# Altium footprint library 5499922-4.PcbLib: 1 footprints
Each footprint in its own frame and in the unit in brackets; x right, y up, seen from the top. Pads: shape width x height; smd on the part's side, far side on the other; paste and mask are expansions set on the pad; w line width, h text height; cw(c..) or ccw(c..) is an arc to the next point about the centre after c.
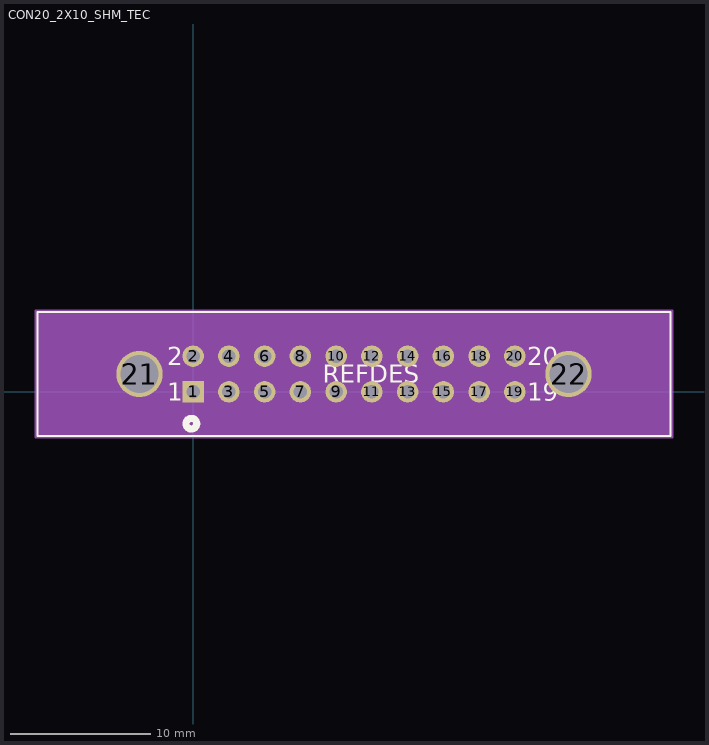
[diagram p0: the footprint, top view; thin cyan lines are the x and y axes]

## CON20_2X10_SHM_TEC [mil]
pads (22):
  rect 60x60 / inner round 60 / far side rect 60x60 hole 38 paste-30 mask-30: 1(0,0)
  round 60 hole 38 paste-30 mask-30: 2(0,100) 3(100,0) 4(100,100) 5(200,0) 6(200,100) 7(300,0) 8(300,100) 9(400,0) 10(400,100) 11(500,0) 12(500,100) 13(600,0) 14(600,100) 15(700,0) 16(700,100) 17(800,0) 18(800,100) 19(900,0) 20(900,100)
  round 130 / inner round 60 / far side round 130 hole 106 paste-65 mask-65: 21(-150,50) 22(1050,50)
Top Overlay:
  circle w20: c-5,-89 r15
  lines w6: -435,-123 -435,223 1335,223 1335,-123 -435,-123
  text "REFDES" at 362.5,25 h50
  text "20" at 935,75 h50
  text "19" at 935,-25 h50
  text "2" at -72.5,75 h50
  text "1" at -72.5,-25 h50
Bottom Overlay:
  circle w20: c-5,-89 r15
  text "20" at 985,75 h50
  text "19" at 985,-25 h50
  text "2" at -47.5,75 h50
  text "1" at -47.5,-25 h50
Mechanical 13:
  circle w20: c0,-75 r15
  lines w1: -430,-118 -430,218 1330,218 1330,-118 -430,-118
  text "RefDes2" at 362.5,25 h50
  text "20" at 935,75 h50
  text "19" at 935,-25 h50
  text "2" at -72.5,75 h50
  text "1" at -72.5,-25 h50
Mechanical 15:
  region: 1340,228 -440,228 -440,-128 1340,-128
  lines w6: -440,-128 1340,-128 1340,228 -440,228 -440,-128